# EAGLE library part SMD-BLACK-MALE-HEADER(6P-2.54-90D) (library Seeed-OPL-Connector)
320020143
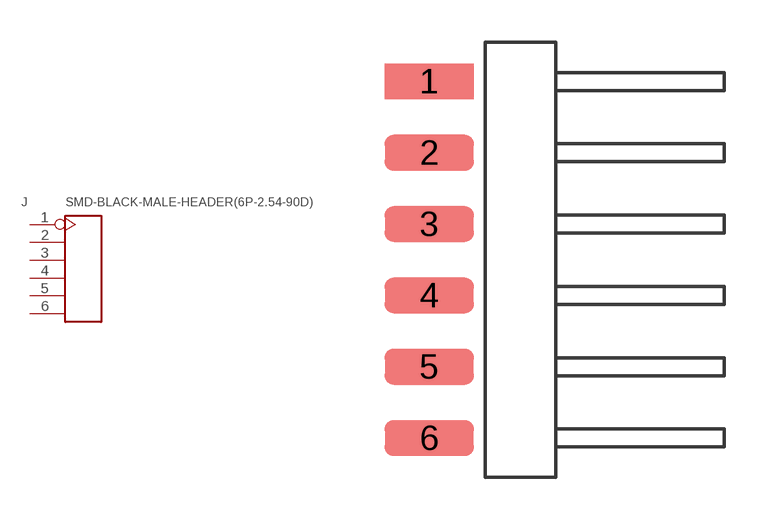
[diagram p100: symbol with the pads of H6-SMD-MALE-2.54-90D; footprint H6-SMD-MALE-2.54-90D]

Designator prefix J

## SMD-BLACK-MALE-HEADER(6P-2.54-90D)  [H6-SMD-MALE-2.54-90D]
1  1
2  2
3  3
4  4
5  5
6  6

## Footprint H6-SMD-MALE-2.54-90D (pad centres in mm)
smd 3.17 x 1.27: 1 0,6.35; 2 0,3.81; 3 0,1.27; 4 0,-1.27; 5 0,-3.81; 6 0,-6.35